# Altium footprint library WIFICAR.PcbLib: 4 footprints
Each footprint in its own frame and in the unit in brackets; x right, y up, seen from the top. Pads: shape width x height; smd on the part's side, far side on the other; paste and mask are expansions set on the pad; w line width, h text height; cw(c..) or ccw(c..) is an arc to the next point about the centre after c.
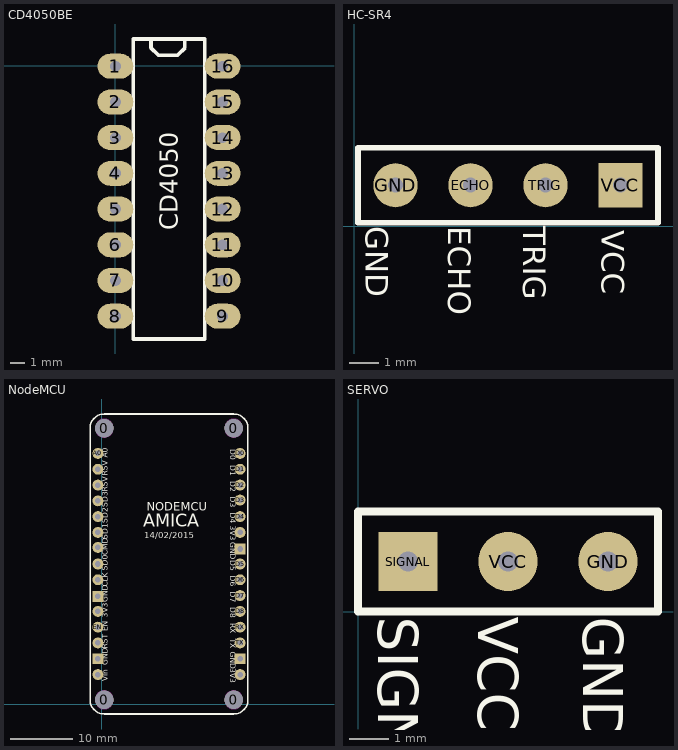
[diagram p0: the footprints below, top view; thin cyan lines are the x and y axes]

## CD4050BE [mil]
pads (16):
  oval 100x70 hole 30: 1(0.39,-1.14) 2(0.39,-101.14) 3(0.39,-201.14) 4(0.39,-301.14) 5(0.39,-401.14) 6(0.39,-501.14) 7(0.39,-601.14) 8(0.39,-701.14) 9(300.39,-701.14) 10(300.39,-601.14) 11(300.39,-501.14) 12(300.39,-401.14) 13(300.39,-301.14) 14(300.39,-201.14) 15(300.39,-101.14) 16(300.39,-1.14)
Top Overlay:
  lines w10: 100,75 100,50 120,30 175,30 195,50 195,75 ; 50,-765 50,75 250,75 250,-765 50,-765
  text "CD4050" at 175,-460 h50

## HC-SR4 [mil]
pads (4):
  round 59.06 hole 20: ECHO(155,55) GND(55,55) TRIG(255,55)
  rect 59.06x59.06 hole 20: VCC(355,55)
Top Overlay:
  lines w7.87: 5,5 5,105 405,105 405,5 5,5
  text "VCC" at 330,-5 h30
  text "TRIG" at 225,0 h30
  text "ECHO" at 125,0 h30
  text "GND" at 15,0 h30

## NodeMCU [mil]
pads (34):
  round 115 hole 115 unplated paste-300 mask-300: 0(16,29) 0(16,1749) 0(836,29) 0(836,1749)
  round 69 hole 35: 3V3_1(876,1089) 3V3_2(876,189) 3V3_3(-24,589) A0(-24,1589) CLK(-24,789) CMD(-24,994) D0(876,1589) D1(876,1489) D2(876,1389) D3(876,1294) D4(876,1189) D5(876,889) D6(876,789) D7(876,689) D8(876,589) EN(-24,489) RST(-24,389) RSV_1(-24,1489) RSV_2(-24,1389) RX(876,489) SD0(-24,889) SD1(-24,1089) SD2(-24,1189) SD3(-24,1289) TX(876,389) VIN(-24,189)
  rect 69x69 hole 35: GND_1(876,984) GND_2(876,289) GND_3(-24,684) GND_4(-24,289)
Top Overlay:
  lines w10: -74,29 ccw(c16,29) 16,-61 836,-61 ccw(c836,29) 926,29 926,1749 ccw(c836,1749) 836,1839 16,1839 ccw(c16,1749) -74,1749 -74,29
  text "GND" at 51,647 h60
  text "3V3" at 51,550 h60
  text "EN" at 51,463 h60
  text "RST" at 51,351 h60
  text "GND" at 51,248 h60
  text "Vin" at 51,148 h60
  text "D7" at 801,713.77 h60
  text "D8" at 801,613.89 h60
  text "RX" at 801,514.94 h60
  text "TX" at 801,416 h60
  text "GND" at 801,332.8 h60
  text "3V3" at 801,229 h60
  text "D6" at 801,814.88 h60
  text "CMD" at 51,945.86 h60
  text "D0" at 801,1615 h60
  text "D1" at 801,1513.65 h60
  text "D2" at 801,1413.42 h60
  text "D3" at 801,1313.42 h60
  text "D4" at 801,1215 h60
  text "3V3" at 801,1129.99 h60
  text "GND" at 801,1028 h60
  text "D5" at 801,914 h60
  text "A0" at 51,1562 h60
  text "RSV" at 51,1448 h60
  text "RSV" at 51,1347.57 h60
  text "SD3" at 51,1247.14 h60
  text "SD2" at 51,1146.71 h60
  text "SD1" at 51,1046.29 h60
  text "SD0" at 51,845.43 h60
  text "CLK" at 51,745 h60
  text "NODEMCU" at 285,1206 h90
  text "AMICA" at 264,1096 h140
  text "14/02/2015" at 270,1037 h69
Keep-Out Layer:
  circle w2: c16,1749 r57.5
  circle w2: c836,1749 r57.5
  circle w2: c16,29 r57.5
  circle w2: c836,29 r57.5

## SERVO [mm]
pads (3):
  round 1.5 hole 0.508: GND(6.35,1.27) VCC(3.81,1.27)
  rect 1.5x1.5 hole 0.508: SIGNAL(1.27,1.27)
Top Overlay:
  lines w0.2: 0,0 7.62,0 7.62,2.54 0,2.54 0,0
  text "SIGNAL" at 0.508,-0.127 h1.02
  text "VCC" at 3.048,-0.127 h1.02
  text "GND" at 5.715,-0.127 h1.02